# Altium schematic symbol library ADG739.SchLib: 1 symbol
Pins are listed as number, name and electrical type; pins without a type are passive.

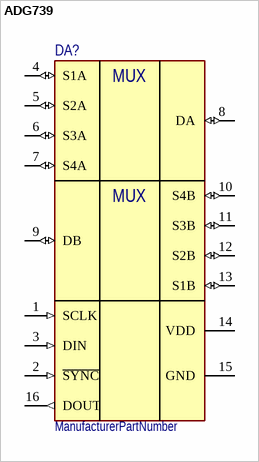
[diagram p0: symbol ADG739]

## ADG739
designator DA?  (value not drawn)
ManufacturerPartNumber: ManufacturerPartNumber
pins: 1 SCLK (in), 2 ~{SYNC} (in), 3 DIN (in), 4 S1A (io), 5 S2A (io), 6 S3A (io), 7 S4A (io), 8 DA (io), 9 DB (io), 10 S4B (io), 11 S3B (io), 12 S2B (io), 13 S1B (io), 14 VDD (power), 15 GND (power), 16 DOUT (out)
1 alternate drawing of the same symbol
text: MUX